# Altium schematic symbol library RC0603FR-071ML.SchLib: 1 symbol
Pins are listed as number, name and electrical type; pins without a type are passive.

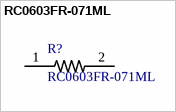
[diagram p0: symbol RC0603FR-071ML]

## RC0603FR-071ML
designator R?
RC Series 0603 0.1 W 1 MOhms 1% Â±100 ppm/Â°C SMT Thick Film Chip Resistor; MF: Yageo; MP: RC0603FR-071ML; Package: 0603 Yageo; Digi-Key_Purchase_URL: https://www.digikey.com/product-detail/en/yageo/RC0603FR-071ML/311-1.00MHRCT-ND/729791?utm_source=snapeda&utm_medium=aggregator&utm_campaign=symbol; Digi-Key_Part_Number: 311-1.00MHRCT-ND; SnapEDA_Link: https://www.snapeda.com/parts/RC0603FR-071ML/Yageo/view-part/?ref=snap; Value: *
footprint *RESC1607X60N
pins: 1, 2